# Altium schematic symbol library ZMR330FTA.SchLib: 1 symbol
Pins are listed as number, name and electrical type; pins without a type are passive.

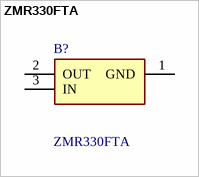
[diagram p0: symbol ZMR330FTA]

## ZMR330FTA
designator B?
Diodes Inc ZMR330FTA, Single Linear Voltage Regulator, 100mA 3.3 V, 3-Pin SOT-23; Manufacturer_Name: Diodes Incorporated; Geometry.Height: 1.2mm; Mouser Part Number: 522-ZMR330FTA; Mouser Price/Stock: https://www.mouser.co.uk/ProductDetail/Diodes-Incorporated/ZMR330FTA?qs=xR5F%252B7zL279AZmsu1D3H1w%3D%3D; Manufacturer_Part_Number: ZMR330FTA; Datasheet Link: https://www.diodes.com//assets/Datasheets/ZMRSERIES.pdf
footprint ZMR330FTA
pins: 1 GND, 2 OUT, 3 IN